# Altium schematic symbol library Lib.SchLib: 4 symbols
Pins are listed as number, name and electrical type; pins without a type are passive.

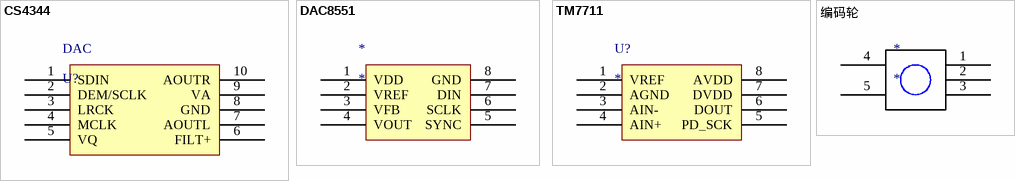
[diagram p0: symbols CS4344 to 编码轮]

## CS4344
designator DAC, comment U?
pins: 1 SDIN, 2 DEM/SCLK, 3 LRCK, 4 MCLK, 5 VQ, 6 FILT+, 7 AOUTL, 8 GND, 9 VA, 10 AOUTR

## DAC8551
designator *
pins: 1 VDD, 2 VREF, 3 VFB, 4 VOUT, 5 SYNC, 6 SCLK, 7 DIN, 8 GND

## TM7711
designator U?
pins: 1 VREF, 2 AGND, 3 AIN-, 4 AIN+, 5 PD_SCK, 6 DOUT, 7 DVDD, 8 AVDD

## 编码轮
designator *
pins: 1, 2, 3, 4, 5